# EAGLE library part BNO055 (library ouijabot)
Adafruit 9-DOF Absolute Orientation IMU Fusion Breakout - BNO055: https://www.adafruit.com/product/2472
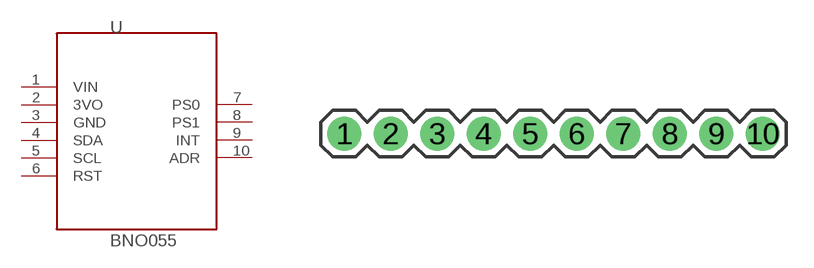
[diagram p2: symbol with the pads of 1X10; footprint 1X10]

Designator prefix -

## BNO055  [1X10]
1  VIN
2  3VO
3  GND
4  SDA
5  SCL
6  RST
7  PS0
8  PS1
9  INT
10  ADR

## Footprint 1X10 (pad centres in mm)
Plated Through Hole -10 Pin Specifications: Pin count:10 Pin pitch:0.1" Example device(s): CONN_10
drill 1.016 pad 1.88: 1 0,0; 2 2.54,0; 3 5.08,0; 4 7.62,0; 5 10.16,0; 6 12.7,0; 7 15.24,0; 8 17.78,0; 9 20.32,0; 10 22.86,0